# Altium footprint library PowerConnectors.PcbLib: 11 footprints
Each footprint in its own frame and in the unit in brackets; x right, y up, seen from the top. Pads: shape width x height; smd on the part's side, far side on the other; paste and mask are expansions set on the pad; w line width, h text height; cw(c..) or ccw(c..) is an arc to the next point about the centre after c.
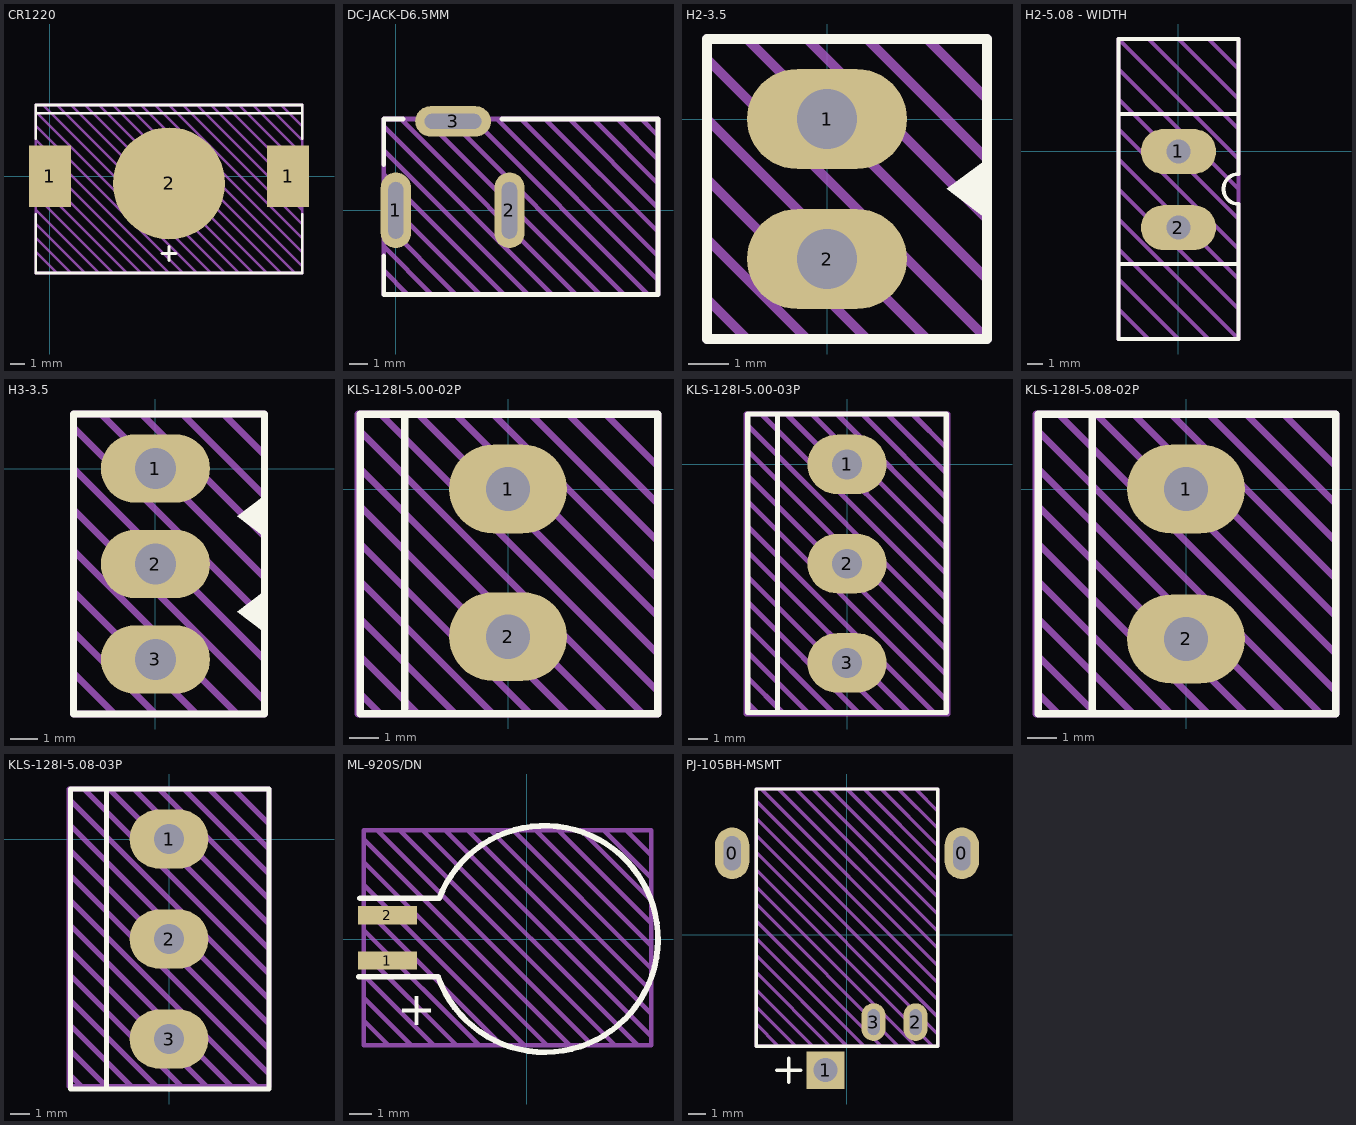
[diagram p0: the footprints below, top view; thin cyan lines are the x and y axes]

## CR1220 [mm] "CR1220, CR1225, CR1216"
pads (3):
  rect 3x4.4 smd: 1(0,0) 1(17,0)
  round 8 smd: 2(8.5,-0.5)
Top Overlay:
  lines w0.2: -1,-2.7 -1,-6.9 18,-6.9 18,-2.7 ; -1,2.7 -1,5.1 18,5.1 18,2.7 ; -1,4.5 18,4.5 ; 8,-5.5 9,-5.5 ; 8.5,-6 8.5,-5
Top Draw:
  lines w0.2: -1,-5.4 0.5,-6.9 ; -1,-4.4 1.5,-6.9 ; -1,-3.4 2.5,-6.9 ; -1,-2.4 3.5,-6.9 ; -1,-1.4 4.5,-6.9 ; -1,-0.4 5.5,-6.9 ; -1,0.6 6.5,-6.9 ; -1,1.6 7.5,-6.9 ; -1,2.6 8.5,-6.9 ; -1,3.6 9.5,-6.9 ; -1,4.6 10.5,-6.9 ; -0.5,5.1 11.5,-6.9 ; 0.5,5.1 12.5,-6.9 ; 1.5,5.1 13.5,-6.9 ; 2.5,5.1 14.5,-6.9 ; 3.5,5.1 15.5,-6.9 ; 4.5,5.1 16.5,-6.9 ; 5.5,5.1 17.5,-6.9 ; 6.5,5.1 18,-6.4 ; 7.5,5.1 18,-5.4 ; 8.5,5.1 18,-4.4 ; 9.5,5.1 18,-3.4 ; 10.5,5.1 18,-2.4 ; 11.5,5.1 18,-1.4 ; 12.5,5.1 18,-0.4 ; 13.5,5.1 18,0.6 ; 14.5,5.1 18,1.6 ; 15.5,5.1 18,2.6 ; 16.5,5.1 18,3.6 ; -1,-6.9 18,-6.9 18,5.1 -1,5.1 -1,-6.9
Top Info:
  text "'.Comment'" at 2.127,-9.125 h1.5
3D body "CR1220.step": height 3.2, standoff 0, extent -1,-6.9 18,5.097

## DC-JACK-D6.5MM [mm]
pads (3):
  oval 1.6x4 hole 0.8 slot 3 at 90 deg: 1(0,0) 2(6,0)
  oval 4x1.6 hole 0.8 slot 3 at 0 deg: 3(3.023,4.699)
Top Overlay:
  lines w0.25: -0.635,-2.413 -0.635,-4.445 13.843,-4.445 13.843,4.826 5.588,4.826 ; -0.635,2.413 -0.635,4.826 0.381,4.826
Top Draw:
  lines w0.25: -0.635,-3.175 0.635,-4.445 ; -0.635,-1.905 1.905,-4.445 ; -0.635,-0.635 3.175,-4.445 ; -0.635,0.635 4.445,-4.445 ; -0.635,1.905 5.715,-4.445 ; -0.635,3.175 6.985,-4.445 ; -0.635,4.445 8.255,-4.445 ; 0.254,4.826 9.525,-4.445 ; 1.524,4.826 10.795,-4.445 ; 2.794,4.826 12.065,-4.445 ; 4.064,4.826 13.335,-4.445 ; 5.334,4.826 13.843,-3.683 ; 6.604,4.826 13.843,-2.413 ; 7.874,4.826 13.843,-1.143 ; 9.144,4.826 13.779,0.191 ; 10.414,4.826 13.843,1.397 ; 11.684,4.826 13.843,2.667 ; 12.954,4.826 13.843,3.937 ; -0.635,-4.445 13.843,-4.445 13.843,4.826 -0.635,4.826 -0.635,-4.445
Top Info:
  text "'.Comment'" at 1.289,-6.329 h1.25
3D body "User Library-DC_Power.step": height 11.05, standoff -3.45, extent -0.596,-4.474 13.804,4.826

## H2-3.5 [mm]
pads (2):
  oval 4x2.5 hole 1.5: 1(0,0) 2(0,-3.5)
Top Overlay:
  region: 4,-1 3,-1.75 4,-2.5
  lines w0.254: -3,-5.5 4,-5.5 4,2 -3,2 -3,-5.5
Top Draw:
  lines w0.254: -3,-4.5 -2,-5.5 ; -3,-3 -0.5,-5.5 ; -3,-1.5 1,-5.5 1.25,-5.5 ; -3,0 2.5,-5.5 2.75,-5.5 ; -3,1.5 4,-5.5 ; -2,2 4,-4 4,-5 ; -0.5,2 4,-2.5 ; 1,2 4,-1 ; 2.5,2 4,0.5 ; 4,-5.5 -3,-5.5 -3,2 4,2 4,-5.5 ; 4,0.5 4,0.5
3D body: height 9.5, standoff 3, extent -2.5,1.2 -2,1.5
3D body: height 9.5, standoff 3, extent -2,1 -1.75,1.5
3D body: height 9.5, standoff 0, extent -3,-5.5 3.5,-5
3D body: height 9.5, standoff 0, extent -3,-2 3.5,-1.5
3D body: height 9.1, standoff 9, extent -0.153,-3.754 0.152,-3.652
3D body: height 9.1, standoff 8.71, extent -0.257,-3.757 0.197,-3.303
3D body: height 9.1, standoff 8.71, extent -0.197,-3.757 0.257,-3.303
3D body: height 9.1, standoff 9, extent -0.152,-3.652 0.152,-3.348
3D body: height 9.1, standoff 9, extent 0.152,-3.652 0.254,-3.348
3D body: height 9.1, standoff 9, extent -0.254,-3.652 -0.152,-3.348
3D body: height 9.1, standoff 8.71, extent -0.257,-3.697 0.197,-3.243
3D body: height 9.1, standoff 8.71, extent -0.197,-3.697 0.257,-3.243
3D body: height 9.1, standoff 9, extent -0.152,-3.348 0.152,-3.246
3D body: height 9, standoff -1.7, extent -0.254,-3.754 0.254,-3.246
3D body: height 9.1, standoff 9, extent -0.153,-0.254 0.152,-0.152
3D body: height 9.1, standoff 8.71, extent -0.257,-0.257 0.197,0.197
3D body: height 9.1, standoff 8.71, extent -0.197,-0.257 0.257,0.197
3D body: height 9.1, standoff 9, extent -0.152,-0.152 0.152,0.152
3D body: height 9.1, standoff 9, extent 0.152,-0.152 0.254,0.152
3D body: height 9.1, standoff 9, extent -0.254,-0.152 -0.152,0.152
3D body: height 9.1, standoff 8.71, extent -0.257,-0.197 0.197,0.257
3D body: height 9.1, standoff 8.71, extent -0.197,-0.197 0.257,0.257
3D body: height 9.1, standoff 9, extent -0.152,0.152 0.152,0.254
3D body: height 9, standoff -1.7, extent -0.254,-0.254 0.254,0.254
3D body: height 4, standoff 3, extent -0.75,-4.25 0.75,-2.75
3D body: height 4, standoff 3, extent -0.75,-0.75 0.75,0.75
3D body: height 9.5, standoff 0, extent -2.5,1.5 3.5,2
3D body: height 9.5, standoff 2.5, extent -3,-5.5 -2.5,2
3D body: height 9.5, standoff 0, extent 3.5,-5.5 4,2
3D body: height 3, standoff 0, extent -3,1.5 1.5,2
3D body: height 2, standoff 0.15, extent -2.9,0.5 1.6,1.5
3D body: height 2, standoff 0.15, extent -2.9,-1.5 1.6,-0.5
3D body: height 2, standoff 0.15, extent -2.9,-3 1.6,-2
3D body: height 2, standoff 0.15, extent -2.9,-5 1.6,-4
3D body: height 2.6, standoff 1, extent -2.9,-5.5 -0.4,2
3D body: height 3.1, standoff 3, extent -2.5,-5 3.5,1.5
3D body: height 9.5, standoff 3, extent -2,-5 -1.75,-4.5
3D body: height 9.5, standoff 3, extent -2.5,-5 -2,-4.7
3D body: height 9.5, standoff 3, extent -2,-2.5 -1.75,-1
3D body: height 9.5, standoff 3, extent -2.5,-1.5 -2,-1.2
3D body: height 9.5, standoff 3, extent -2.5,-2.3 -2,-2
3D body: height 0.1, standoff 0, extent 1.5,-5.5 4,2

## H2-5.08 - WIDTH [mm]
pads (2):
  oval 5x3 hole 1.6: 1(0,0) 2(0,-5.08)
Top Overlay:
  lines w0.254: -4,-7.5 4,-7.5 ; -4,2.5 4,2.5 ; -4,-12.5 4,-12.5 4,-3.5 cw(c4,-2.5) 4,-1.5 4,7.5 -4,7.5 -4,-12.5
Top Draw:
  lines w0.254: -4,-8.5 0,-12.5 ; -4,-6.5 2,-12.5 ; -4,-0.5 4,-8.5 4,-9 ; -4,1.5 4,-6.5 4,-7 ; -4,3.5 4,-4.5 4,-5.5 ; -4,5.5 4,-2.5 ; -2,7.5 4,1.5 ; 0,7.5 4,3.5 ; 2,7.5 4,5.5 ; 4,-10.5 -4,-2.5 -4,-4.5 4,-12.5 ; 4,-0.5 -4,7.5 ; -4,7.5 -4,-12.5 4,-12.5 ; -4,7.5 4,7.5 4,-12.5 ; -2,-12.5 -4,-10.5 -2,-12.5 ; -2,-12.5 -2,-12.5

## H3-3.5 [mm]
pads (3):
  oval 4x2.5 hole 1.5: 1(0,0) 2(0,-3.5) 3(0,-7)
Top Overlay:
  region: 4,-4.5 3,-5.25 4,-6
  region: 4,-1 3,-1.75 4,-2.5
  lines w0.254: -3,-9 -3,2 4,2 4,-9 -3,-9
Top Draw:
  lines w0.254: -3,-7.5 -1.5,-9 -1,-9 ; -3,-6 0,-9 0.5,-9 ; -3,-4.5 1.5,-9 2,-9 ; -3,-3 3,-9 ; -3,-1.5 4,-8.5 ; -3,0 4,-7 4,-7.5 ; -3,1.5 4,-5.5 4,-6 ; -2,2 4,-4 4,-5 ; -0.5,2 4,-2.5 ; 1,2 4,-1 ; 2.5,2 4,0.5 ; 3,-9 3,-9 ; 4,-8.5 4,-8.5 ; 4,0.5 4,0.5 ; -3,-9 4,-9 4,2 -3,2 -3,-9
3D body: height 9.5, standoff 3, extent -2.5,-2.3 -2,-2
3D body: height 9.5, standoff 3, extent -2.5,-1.5 -2,-1.2
3D body: height 9.5, standoff 3, extent -2,-2.5 -1.75,-1
3D body: height 9.5, standoff 3, extent -2.5,-5.8 -2,-5.5
3D body: height 9.5, standoff 3, extent -2.5,-5 -2,-4.7
3D body: height 9.5, standoff 3, extent -2,-6 -1.75,-4.5
3D body: height 3.1, standoff 3, extent -2.5,-8.5 3.5,1.5
3D body: height 2.6, standoff 1, extent -2.9,-9 -0.4,2
3D body: height 2, standoff 0.15, extent -2.9,-8.5 1.6,-7.5
3D body: height 2, standoff 0.15, extent -2.9,-6.5 1.6,-5.5
3D body: height 2, standoff 0.15, extent -2.9,-5 1.6,-4
3D body: height 2, standoff 0.15, extent -2.9,-3 1.6,-2
3D body: height 2, standoff 0.15, extent -2.9,-1.5 1.6,-0.5
3D body: height 2, standoff 0.15, extent -2.9,0.5 1.6,1.5
3D body: height 3, standoff 0, extent -3,-9 1.5,-8.5
3D body: height 3, standoff 0, extent -3,1.5 1.5,2
3D body: height 0.1, standoff 0, extent 1.5,-9 4,2
3D body: height 9.5, standoff 0, extent 3.5,-9 4,2
3D body: height 9.5, standoff 2.5, extent -3,-9 -2.5,2
3D body: height 9.5, standoff 0, extent -2.5,-9 3.5,-8.5
3D body: height 9.5, standoff 0, extent -2.5,1.5 3.5,2
3D body: height 4, standoff 3, extent -0.75,-0.75 0.75,0.75
3D body: height 4, standoff 3, extent -0.75,-4.25 0.75,-2.75
3D body: height 4, standoff 3, extent -0.75,-7.75 0.75,-6.25
3D body: height 9, standoff -1.7, extent -0.254,-0.254 0.254,0.254
3D body: height 9.1, standoff 9, extent -0.152,0.152 0.152,0.254
3D body: height 9.1, standoff 8.71, extent -0.197,-0.197 0.257,0.257
3D body: height 9.1, standoff 8.71, extent -0.257,-0.197 0.197,0.257
3D body: height 9.1, standoff 9, extent -0.254,-0.152 -0.152,0.152
3D body: height 9.1, standoff 9, extent 0.152,-0.152 0.254,0.152
3D body: height 9.1, standoff 9, extent -0.152,-0.152 0.152,0.152
3D body: height 9.1, standoff 8.71, extent -0.197,-0.257 0.257,0.197
3D body: height 9.1, standoff 8.71, extent -0.257,-0.257 0.197,0.197
3D body: height 9.1, standoff 9, extent -0.153,-0.254 0.152,-0.152
3D body: height 9, standoff -1.7, extent -0.254,-3.754 0.254,-3.246
3D body: height 9.1, standoff 9, extent -0.152,-3.348 0.152,-3.246
3D body: height 9.1, standoff 8.71, extent -0.197,-3.697 0.257,-3.243
3D body: height 9.1, standoff 8.71, extent -0.257,-3.697 0.197,-3.243
3D body: height 9.1, standoff 9, extent -0.254,-3.652 -0.152,-3.348
3D body: height 9.1, standoff 9, extent 0.152,-3.652 0.254,-3.348
3D body: height 9.1, standoff 9, extent -0.152,-3.652 0.152,-3.348
3D body: height 9.1, standoff 8.71, extent -0.197,-3.757 0.257,-3.303
3D body: height 9.1, standoff 8.71, extent -0.257,-3.757 0.197,-3.303
3D body: height 9.1, standoff 9, extent -0.153,-3.754 0.152,-3.652
3D body: height 9, standoff -1.7, extent -0.254,-7.254 0.254,-6.746
3D body: height 9.1, standoff 9, extent -0.152,-6.848 0.152,-6.746
3D body: height 9.1, standoff 8.71, extent -0.197,-7.197 0.257,-6.743
3D body: height 9.1, standoff 8.71, extent -0.257,-7.197 0.197,-6.743
3D body: height 9.1, standoff 9, extent -0.254,-7.152 -0.152,-6.848
3D body: height 9.1, standoff 9, extent 0.152,-7.152 0.254,-6.848
3D body: height 9.1, standoff 9, extent -0.152,-7.152 0.152,-6.848
3D body: height 9.1, standoff 8.71, extent -0.197,-7.257 0.257,-6.803
3D body: height 9.1, standoff 8.71, extent -0.257,-7.257 0.197,-6.803
3D body: height 9.1, standoff 9, extent -0.153,-7.254 0.152,-7.152
3D body: height 9.5, standoff 0, extent -3,-2 3.5,-1.5
3D body: height 9.5, standoff 0, extent -3,-5.5 3.5,-5
3D body: height 9.5, standoff 3, extent -2,1 -1.75,1.5
3D body: height 9.5, standoff 3, extent -2.5,1.2 -2,1.5
3D body: height 9.5, standoff 3, extent -2,-8.5 -1.75,-8
3D body: height 9.5, standoff 3, extent -2.5,-8.5 -2,-8.2

## KLS-128I-5.00-02P [mm]
pads (2):
  oval 4x3 hole 1.5: 1(0,0) 2(0,-5)
Top Overlay:
  lines w0.254: -3.5,-7.5 -3.5,2.5 ; -5,-7.62 -5,2.54 5.08,2.54 5.08,-7.62 -5,-7.62
Top Draw:
  lines w0.254: -5.08,-6.858 -4.318,-7.62 -4.191,-7.62 ; -5.08,-5.588 -3.048,-7.62 -2.921,-7.62 ; -5.08,-4.318 -1.778,-7.62 ; -5.08,-3.048 -0.508,-7.62 ; -5.08,-1.778 0.762,-7.62 ; -5.08,-0.508 2.032,-7.62 ; -5.08,0.762 3.302,-7.62 ; -5.08,2.032 4.572,-7.62 ; -4.318,2.54 5.08,-6.858 ; -3.048,2.54 5.08,-5.588 ; -2.794,-7.62 -1.778,-7.62 ; -1.778,2.54 5.08,-4.318 ; -0.889,-7.62 -1.016,-7.62 -1.778,-7.62 ; -0.508,2.54 5.08,-3.048 ; 0.762,2.54 5.08,-1.778 ; 2.032,2.54 5.08,-0.508 ; 3.302,2.54 5.08,0.762 ; -5.08,-7.62 -5.08,2.54 5.08,2.54 5.08,-7.62 -5.08,-7.62
3D body: height 13.8, standoff 13.2, extent -1.6,-6.6 1.6,-3.4
3D body: height 13.8, standoff 13.2, extent -1.6,-1.6 1.6,1.6
3D body: height 6, standoff 5.6, extent -3.825,-6.853 1.001,-3.297
3D body: height 6, standoff 0.49, extent -3.825,-6.877 0.747,-6.623
3D body: height 6, standoff 0.49, extent 0.748,-6.853 1.002,-3.297
3D body: height 6, standoff 0.49, extent -3.825,-3.552 0.772,-3.298
3D body: height 1.6, standoff 1.5, extent -3.75,-6.65 0.822,-3.526
3D body: height 1.6, standoff 1.5, extent -3.75,-1.55 0.822,1.55
3D body: height 6, standoff 0.49, extent -3.825,1.523 0.747,1.777
3D body: height 6, standoff 0.49, extent 0.723,-1.778 0.977,1.778
3D body: height 6, standoff 0.49, extent -3.825,-1.777 0.747,-1.523
3D body: height 6, standoff 5.6, extent -3.825,-1.778 1.001,1.778
3D body: height 1.5, standoff -3, extent -0.381,-0.508 0.381,0.508
3D body: height 1.5, standoff -3, extent -0.381,-5.508 0.381,-4.492
3D body: height 13.3, standoff 13, extent -1.5,-1.499 1.5,1.5
3D body: height 13.3, standoff 13, extent -1.5,-6.5 1.5,-3.5
3D body: height 14, standoff 13, extent -3.4,-2.501 2.6,2.451
3D body: height 14, standoff 13, extent -3.4,-7.525 2.6,-2.375
3D body: height 1.5, standoff 0, extent 2.032,-1.778 5.1,1.778
3D body: height 6, standoff 0, extent 2.699,-7.773 3.2,-7.65
3D body: height 6, standoff 0, extent -2.708,-7.777 -2.2,-7.65
3D body: height 6, standoff 0, extent -5.1,-3.302 5.1,-1.778
3D body: height 6, standoff 0, extent -5.1,-7.65 5.1,-6.9
3D body: height 6, standoff 0, extent -5.1,1.778 5.1,2.337
3D body: height 6, standoff 0, extent -5.099,2.323 -2.573,2.45
3D body: height 8, standoff 0, extent -2.323,2.327 2.823,2.45
3D body: height 6, standoff 0, extent 3.079,2.329 5.1,2.45
3D body: height 1.5, standoff 0, extent -5.1,-1.825 -3.75,1.878
3D body: height 1.5, standoff 0, extent -5.1,-7.65 -3.75,-3.202
3D body: height 1.5, standoff 0, extent 2.032,-6.9 5.1,-3.302
3D body: height 6, standoff 1.49, extent 2.032,0.508 5.1,1.778
3D body: height 6, standoff 1.49, extent 2.032,-1.778 5.1,-0.508
3D body: height 6, standoff 1.49, extent 2.032,-4.572 5.1,-3.302
3D body: height 6, standoff 1.49, extent 2.032,-6.9 5.1,-5.588
3D body: height 6, standoff 5.9, extent 4.064,-0.635 5.1,0.635
3D body: height 6, standoff 5.9, extent 4.064,-5.715 5.1,-4.445
3D body: height 14, standoff 6, extent 2.6,-7.65 5.1,2.45
3D body: height 14, standoff 7, extent -5.1,-7.65 -3.4,2.45
3D body: height 7, standoff 6, extent -5.1,-7.65 -3.35,2.45
3D body: height 14, standoff 6, extent -3.4,2.05 2.6,2.45
3D body: height 14, standoff 6, extent -3.4,-7.65 2.6,-7.25

## KLS-128I-5.00-03P [mm]
pads (3):
  oval 4x3 hole 1.5: 1(0,0) 2(0,-5) 3(0,-10)
Top Overlay:
  lines w0.254: -3.5,-12.5 -3.5,2.54 ; -3.5,2.54 5,2.54 5,-12.5 -5,-12.5 -5,2.54 -3.5,2.54
Top Draw:
  lines w0.254: -5.08,-11.938 -4.445,-12.573 ; -5.08,-10.668 -3.175,-12.573 ; -5.08,-9.398 -1.905,-12.573 ; -5.08,-8.128 -0.635,-12.573 ; -5.08,-6.858 0.635,-12.573 ; -5.08,-5.588 1.905,-12.573 ; -5.08,-4.318 3.175,-12.573 ; -5.08,-3.048 4.445,-12.573 ; -5.08,-1.778 5.08,-11.938 ; -5.08,-0.508 5.08,-10.668 ; -5.08,0.762 5.08,-9.398 ; -5.08,2.032 5.08,-8.128 ; -4.318,2.54 5.08,-6.858 ; -3.048,2.54 5.08,-5.588 ; -1.778,2.54 5.08,-4.318 ; -0.508,2.54 5.08,-3.048 ; 0.762,2.54 5.08,-1.778 ; 2.032,2.54 5.08,-0.508 ; 3.302,2.54 5.08,0.762 ; -5.08,-12.573 5.08,-12.573 5.08,2.54 -5.08,2.54 -5.08,-12.573
3D body: height 6, standoff 0, extent 2.699,-12.773 3.2,-12.65
3D body: height 6, standoff 0, extent -2.708,-12.777 -2.2,-12.65
3D body: height 6, standoff 0.49, extent -3.825,-6.877 0.747,-6.623
3D body: height 6, standoff 0.49, extent -3.825,-11.877 0.747,-11.623
3D body: height 6, standoff 0.49, extent -3.825,-8.552 0.772,-8.298
3D body: height 1.6, standoff 1.5, extent -3.75,-6.65 0.822,-3.526
3D body: height 1.6, standoff 1.5, extent -3.75,-11.65 0.822,-8.526
3D body: height 6, standoff 5.6, extent -3.825,-6.853 1.001,-3.297
3D body: height 6, standoff 5.6, extent -3.825,-11.853 1.001,-8.297
3D body: height 14, standoff 6, extent -3.4,-7.65 2.6,-7.25
3D body: height 14, standoff 13, extent -3.4,-12.525 2.6,-7.375
3D body: height 14, standoff 6, extent -3.4,-12.65 2.6,-12.25
3D body: height 6, standoff 0, extent -5.1,-7.65 5.1,-6.9
3D body: height 1.5, standoff -3, extent -0.381,-10.508 0.381,-9.492
3D body: height 13.8, standoff 13.2, extent -1.6,-11.6 1.6,-8.4
3D body: height 6, standoff 0, extent -5.1,-8.302 5.1,-6.778
3D body: height 13.3, standoff 13, extent -1.5,-11.499 1.5,-8.5
3D body: height 6, standoff 0.49, extent 0.748,-6.853 1.002,-3.297
3D body: height 6, standoff 0.49, extent 0.748,-11.853 1.002,-8.297
3D body: height 6, standoff 1.49, extent 2.032,-6.9 5.1,-5.588
3D body: height 1.5, standoff 0, extent 2.032,-6.9 5.1,-3.302
3D body: height 6, standoff 1.49, extent 2.032,-9.572 5.1,-8.302
3D body: height 1.5, standoff 0, extent 2.032,-11.9 5.1,-8.302
3D body: height 6, standoff 1.49, extent 2.032,-11.9 5.1,-10.588
3D body: height 14, standoff 6, extent 2.6,-12.65 5.1,-2.55
3D body: height 6, standoff 5.9, extent 4.064,-5.715 5.1,-4.445
3D body: height 6, standoff 5.9, extent 4.064,-10.715 5.1,-9.445
3D body: height 6, standoff 0, extent -5.1,-12.65 5.1,-11.9
3D body: height 1.5, standoff 0, extent -5.1,-1.825 -3.75,1.878
3D body: height 14, standoff 7, extent -5.1,-7.65 -3.4,2.45
3D body: height 6, standoff 0, extent -5.099,2.323 -2.573,2.45
3D body: height 6, standoff 0.49, extent -3.825,-1.777 0.747,-1.523
3D body: height 6, standoff 0.49, extent -3.825,1.523 0.747,1.777
3D body: height 6, standoff 0.49, extent -3.825,-3.552 0.772,-3.298
3D body: height 1.6, standoff 1.5, extent -3.75,-1.55 0.822,1.55
3D body: height 6, standoff 5.6, extent -3.825,-1.778 1.001,1.778
3D body: height 14, standoff 13, extent -3.4,-7.525 2.6,-2.375
3D body: height 14, standoff 6, extent -3.4,2.05 2.6,2.45
3D body: height 14, standoff 13, extent -3.4,-2.501 2.6,2.451
3D body: height 6, standoff 0, extent -5.1,1.778 5.1,2.337
3D body: height 13.8, standoff 13.2, extent -1.6,-6.6 1.6,-3.4
3D body: height 13.8, standoff 13.2, extent -1.6,-1.6 1.6,1.6
3D body: height 6, standoff 0, extent -5.1,-3.302 5.1,-1.778
3D body: height 13.3, standoff 13, extent -1.5,-1.499 1.5,1.5
3D body: height 1.5, standoff -3, extent -0.381,-0.508 0.381,0.508
3D body: height 13.3, standoff 13, extent -1.5,-6.5 1.5,-3.5
3D body: height 1.5, standoff -3, extent -0.381,-5.508 0.381,-4.492
3D body: height 8, standoff 0, extent -2.323,2.327 2.823,2.45
3D body: height 6, standoff 0.49, extent 0.723,-1.778 0.977,1.778
3D body: height 6, standoff 1.49, extent 2.032,-4.572 5.1,-3.302
3D body: height 6, standoff 1.49, extent 2.032,-1.778 5.1,-0.508
3D body: height 6, standoff 1.49, extent 2.032,0.508 5.1,1.778
3D body: height 1.5, standoff 0, extent 2.032,-1.778 5.1,1.778
3D body: height 14, standoff 6, extent 2.6,-7.65 5.1,2.45
3D body: height 6, standoff 0, extent 3.079,2.329 5.1,2.45
3D body: height 6, standoff 5.9, extent 4.064,-0.635 5.1,0.635
3D body: height 1.5, standoff 0, extent -5.1,-7.65 -3.75,-3.202
3D body: height 1.5, standoff 0, extent -5.1,-12.65 -3.75,-8.202
3D body: height 14, standoff 7, extent -5.1,-12.65 -3.4,-2.55
3D body: height 7, standoff 6, extent -5.1,-12.65 -3.35,2.45

## KLS-128I-5.08-02P [mm]
pads (2):
  oval 4x3 hole 1.5: 1(0,0) 2(0,-5.08)
Top Overlay:
  lines w0.254: -3.81,2.54 5.08,2.54 5.08,-7.62 -5,-7.62 -5,2.54 -3.175,2.54 -3.175,-7.62
Top Draw:
  lines w0.254: -5.08,-6.858 -4.318,-7.62 -4.191,-7.62 ; -5.08,-5.588 -3.048,-7.62 -2.921,-7.62 ; -5.08,-4.318 -1.778,-7.62 ; -5.08,-3.048 -0.508,-7.62 ; -5.08,-1.778 0.762,-7.62 ; -5.08,-0.508 2.032,-7.62 ; -5.08,0.762 3.302,-7.62 ; -5.08,2.032 4.572,-7.62 ; -4.318,2.54 5.08,-6.858 ; -3.048,2.54 5.08,-5.588 ; -2.794,-7.62 -1.778,-7.62 ; -1.778,2.54 5.08,-4.318 ; -0.889,-7.62 -1.016,-7.62 -1.778,-7.62 ; -0.508,2.54 5.08,-3.048 ; 0.762,2.54 5.08,-1.778 ; 2.032,2.54 5.08,-0.508 ; 3.302,2.54 5.08,0.762 ; -5.08,-7.62 5.08,-7.62 5.08,2.54 -5.08,2.54 -5.08,-7.62
3D body: height 13.8, standoff 13.2, extent -1.6,-1.6 1.6,1.6
3D body: height 13.8, standoff 13.2, extent -1.6,-6.68 1.6,-3.48
3D body: height 6, standoff 5.6, extent -3.825,-6.853 1.001,-3.297
3D body: height 6, standoff 0.49, extent -3.825,-6.877 0.747,-6.623
3D body: height 6, standoff 0.49, extent 0.748,-6.853 1.002,-3.297
3D body: height 6, standoff 0.49, extent -3.825,-3.552 0.772,-3.298
3D body: height 1.6, standoff 1.5, extent -3.75,-6.65 0.822,-3.526
3D body: height 1.6, standoff 1.5, extent -3.75,-1.55 0.822,1.55
3D body: height 6, standoff 0.49, extent -3.825,1.523 0.747,1.777
3D body: height 6, standoff 0.49, extent 0.723,-1.778 0.977,1.778
3D body: height 6, standoff 0.49, extent -3.825,-1.777 0.747,-1.523
3D body: height 6, standoff 5.6, extent -3.825,-1.778 1.001,1.778
3D body: height 1.5, standoff -3, extent -0.381,-0.508 0.381,0.508
3D body: height 1.5, standoff -3, extent -0.381,-5.588 0.381,-4.572
3D body: height 13.3, standoff 13, extent -1.5,-1.5 1.5,1.5
3D body: height 13.3, standoff 13, extent -1.5,-6.58 1.5,-3.581
3D body: height 14, standoff 13, extent -3.4,-2.54 2.6,2.45
3D body: height 1.5, standoff 0, extent 2.032,-1.778 5.1,1.778
3D body: height 6, standoff 0, extent -5.1,-3.302 5.1,-1.778
3D body: height 6, standoff 0, extent -5.1,1.778 5.1,2.337
3D body: height 6, standoff 0, extent -5.099,2.323 -2.573,2.45
3D body: height 8, standoff 0, extent -2.323,2.326 2.824,2.45
3D body: height 6, standoff 0, extent 3.079,2.328 5.1,2.45
3D body: height 1.5, standoff 0, extent -5.1,-1.825 -3.75,1.878
3D body: height 1.5, standoff 0, extent -5.1,-7.65 -3.75,-3.202
3D body: height 1.5, standoff 0, extent 2.032,-6.9 5.1,-3.302
3D body: height 6, standoff 1.49, extent 2.032,0.508 5.1,1.778
3D body: height 6, standoff 1.49, extent 2.032,-1.778 5.1,-0.508
3D body: height 6, standoff 1.49, extent 2.032,-4.572 5.1,-3.302
3D body: height 6, standoff 1.49, extent 2.032,-6.9 5.1,-5.588
3D body: height 6, standoff 5.9, extent 4.064,-0.635 5.1,0.635
3D body: height 6, standoff 5.9, extent 4.064,-5.715 5.1,-4.445
3D body: height 14, standoff 6, extent 2.6,-7.65 5.1,2.45
3D body: height 14, standoff 7, extent -5.1,-7.65 -3.4,2.45
3D body: height 7, standoff 6, extent -5.1,-7.65 -3.35,2.45
3D body: height 14, standoff 6, extent -3.4,2.05 2.6,2.45
3D body: height 6, standoff 0, extent 2.699,-7.768 3.2,-7.645
3D body: height 6, standoff 0, extent -2.708,-7.772 -2.2,-7.645
3D body: height 6, standoff 0, extent -5.1,-7.65 5.1,-6.9
3D body: height 14, standoff 6, extent -3.4,-7.65 2.6,-7.25
3D body: height 14, standoff 13, extent -3.4,-7.581 2.6,-2.54

## KLS-128I-5.08-03P [mm]
pads (3):
  oval 4x3 hole 1.5: 1(0,0) 2(0,-5.08) 3(0,-10.16)
Top Overlay:
  lines w0.254: -3.81,2.54 5.08,2.54 5.08,-12.7 -5,-12.7 -5,2.54 -3.175,2.54 -3.175,-12.7
Top Draw:
  lines w0.254: -5.08,-11.938 -4.445,-12.573 ; -5.08,-10.668 -3.175,-12.573 ; -5.08,-9.398 -1.905,-12.573 ; -5.08,-8.128 -0.635,-12.573 ; -5.08,-6.858 0.635,-12.573 ; -5.08,-5.588 1.905,-12.573 ; -5.08,-4.318 3.175,-12.573 ; -5.08,-3.048 4.445,-12.573 ; -5.08,-1.778 5.08,-11.938 ; -5.08,-0.508 5.08,-10.668 ; -5.08,0.762 5.08,-9.398 ; -5.08,2.032 5.08,-8.128 ; -4.318,2.54 5.08,-6.858 ; -3.048,2.54 5.08,-5.588 ; -1.778,2.54 5.08,-4.318 ; -0.508,2.54 5.08,-3.048 ; 0.762,2.54 5.08,-1.778 ; 2.032,2.54 5.08,-0.508 ; 3.302,2.54 5.08,0.762 ; -5.08,-12.573 5.08,-12.573 5.08,2.54 -5.08,2.54 -5.08,-12.573
3D body: height 14, standoff 13, extent -3.4,-12.661 2.6,-7.62
3D body: height 14, standoff 13, extent -3.4,-7.62 2.6,-2.54
3D body: height 6, standoff 0, extent -5.1,-8.382 5.1,-6.858
3D body: height 14, standoff 7, extent -5.1,-12.73 -3.4,-2.63
3D body: height 14, standoff 6, extent 2.6,-12.73 5.1,-2.63
3D body: height 14, standoff 6, extent -3.4,-12.73 2.6,-12.33
3D body: height 6, standoff 5.9, extent 4.064,-10.795 5.1,-9.525
3D body: height 6, standoff 1.49, extent 2.032,-11.98 5.1,-10.668
3D body: height 6, standoff 1.49, extent 2.032,-9.652 5.1,-8.382
3D body: height 1.5, standoff 0, extent 2.032,-11.98 5.1,-8.382
3D body: height 1.5, standoff 0, extent -5.1,-12.73 -3.75,-8.282
3D body: height 6, standoff 0, extent -5.1,-12.73 5.1,-11.98
3D body: height 6, standoff 0, extent -2.708,-12.852 -2.2,-12.725
3D body: height 13.3, standoff 13, extent -1.5,-11.66 1.5,-8.661
3D body: height 1.5, standoff -3, extent -0.381,-10.668 0.381,-9.652
3D body: height 1.6, standoff 1.5, extent -3.75,-11.73 0.822,-8.606
3D body: height 6, standoff 0.49, extent -3.825,-8.632 0.772,-8.378
3D body: height 6, standoff 0.49, extent 0.748,-11.933 1.002,-8.377
3D body: height 6, standoff 0.49, extent -3.825,-11.957 0.747,-11.703
3D body: height 6, standoff 5.6, extent -3.825,-11.933 1.001,-8.377
3D body: height 13.8, standoff 13.2, extent -1.6,-11.76 1.6,-8.56
3D body: height 14, standoff 6, extent -3.4,-7.65 2.6,-7.25
3D body: height 14, standoff 6, extent -3.4,2.05 2.6,2.45
3D body: height 7, standoff 6, extent -5.1,-12.73 -3.35,2.45
3D body: height 14, standoff 7, extent -5.1,-7.65 -3.4,2.45
3D body: height 14, standoff 6, extent 2.6,-7.65 5.1,2.45
3D body: height 6, standoff 5.9, extent 4.064,-5.715 5.1,-4.445
3D body: height 6, standoff 5.9, extent 4.064,-0.635 5.1,0.635
3D body: height 6, standoff 1.49, extent 2.032,-6.9 5.1,-5.588
3D body: height 6, standoff 1.49, extent 2.032,-4.572 5.1,-3.302
3D body: height 6, standoff 1.49, extent 2.032,-1.778 5.1,-0.508
3D body: height 6, standoff 1.49, extent 2.032,0.508 5.1,1.778
3D body: height 1.5, standoff 0, extent 2.032,-6.9 5.1,-3.302
3D body: height 1.5, standoff 0, extent -5.1,-7.65 -3.75,-3.202
3D body: height 1.5, standoff 0, extent -5.1,-1.825 -3.75,1.878
3D body: height 6, standoff 0, extent 3.079,2.329 5.1,2.45
3D body: height 8, standoff 0, extent -2.323,2.327 2.823,2.45
3D body: height 6, standoff 0, extent -5.099,2.323 -2.573,2.45
3D body: height 6, standoff 0, extent -5.1,1.778 5.1,2.337
3D body: height 6, standoff 0, extent -5.1,-7.65 5.1,-6.9
3D body: height 6, standoff 0, extent -5.1,-3.302 5.1,-1.778
3D body: height 1.5, standoff 0, extent 2.032,-1.778 5.1,1.778
3D body: height 14, standoff 13, extent -3.4,-2.54 2.6,2.451
3D body: height 13.3, standoff 13, extent -1.5,-6.58 1.5,-3.58
3D body: height 13.3, standoff 13, extent -1.5,-1.499 1.5,1.5
3D body: height 1.5, standoff -3, extent -0.381,-5.588 0.381,-4.572
3D body: height 1.5, standoff -3, extent -0.381,-0.508 0.381,0.508
3D body: height 6, standoff 5.6, extent -3.825,-1.778 1.001,1.778
3D body: height 6, standoff 0.49, extent -3.825,-1.777 0.747,-1.523
3D body: height 6, standoff 0.49, extent 0.723,-1.778 0.977,1.778
3D body: height 6, standoff 0.49, extent -3.825,1.523 0.747,1.777
3D body: height 1.6, standoff 1.5, extent -3.75,-1.55 0.822,1.55
3D body: height 1.6, standoff 1.5, extent -3.75,-6.65 0.822,-3.526
3D body: height 6, standoff 0.49, extent -3.825,-3.552 0.772,-3.298
3D body: height 6, standoff 0.49, extent 0.748,-6.853 1.002,-3.297
3D body: height 6, standoff 0.49, extent -3.825,-6.877 0.747,-6.623
3D body: height 6, standoff 5.6, extent -3.825,-6.853 1.001,-3.297
3D body: height 13.8, standoff 13.2, extent -1.6,-6.68 1.6,-3.48
3D body: height 13.8, standoff 13.2, extent -1.6,-1.6 1.6,1.6
3D body: height 6, standoff 0, extent 2.7,-12.848 3.2,-12.725

## ML-920S/DN [mm]
pads (2):
  rect 2.6x0.8 smd: 1(-6.15,-0.95) 2(-6.15,1.05)
Top Overlay:
  lines w0.254: -7.414,-1.664 -3.915,-1.664 ccw(c0.8,0) -3.867,1.795 -7.366,1.795
  text "+" at -5.715,-3.81 h1.5
Top Draw:
  lines w0.2: -7.2,-3.6 -6.1,-4.7 ; -7.2,-2.6 -5.1,-4.7 ; -7.2,-1.6 -4.1,-4.7 ; -7.2,-0.6 -3.1,-4.7 ; -7.2,0.4 -2.1,-4.7 ; -7.2,1.4 -1.1,-4.7 ; -7.2,2.4 -0.1,-4.7 ; -7.2,3.4 0.9,-4.7 ; -7.2,4.4 1.9,-4.7 ; -6.6,4.8 2.9,-4.7 ; -5.6,4.8 3.9,-4.7 ; -4.6,4.8 4.9,-4.7 ; -3.6,4.8 5.5,-4.3 ; -2.6,4.8 5.5,-3.3 ; -1.6,4.8 5.5,-2.3 ; -0.6,4.8 5.5,-1.3 ; 0.4,4.8 5.5,-0.3 ; 1.4,4.8 5.5,0.7 ; 2.4,4.8 5.5,1.7 ; 3.4,4.8 5.5,2.7 ; 4.4,4.8 5.5,3.7 ; -7.2,-4.7 5.5,-4.7 5.5,4.8 -7.2,4.8 -7.2,-4.7
3D body "ML-920SDN.STEP": height 2.8, standoff 0, extent -7.22,-4.719 5.53,4.781

## PJ-105BH-MSMT [mm]
pads (5):
  oval 2x3 hole 1 slot 2 at 90 deg: 0(-6.699,4.749) 0(6.701,4.749)
  rect 2.2x2.2 hole 1.4: 1(-1.249,-7.901)
  oval 1.4x2.2 hole 0.7 slot 1.5 at 90 deg: 2(4.001,-5.101) 3(1.551,-5.101)
Top Overlay:
  lines w0.2: -5.3,-6.5 -4.6,-6.5 5.3,-6.5 5.3,8.5 -5.3,8.5 ; -5.297,-6.5 -5.297,8.5 ; -4.1,-7.9 -2.7,-7.9 ; -3.4,-8.6 -3.4,-7.2
Top Draw:
  lines w0.2: -5.3,-5.2 -4,-6.5 ; -5.3,-4.2 -3,-6.5 ; -5.3,-3.2 -2,-6.5 ; -5.3,-2.2 -1,-6.5 ; -5.3,-1.2 0,-6.5 ; -5.3,-0.2 1,-6.5 ; -5.3,0.8 2,-6.5 ; -5.3,1.8 3,-6.5 ; -5.3,2.8 4,-6.5 ; -5.3,3.8 5,-6.5 ; -5.3,4.8 5.3,-5.8 ; -5.3,5.8 5.3,-4.8 ; -5.3,6.8 5.3,-3.8 ; -5.3,7.8 5.3,-2.8 ; -5,8.5 5.3,-1.8 ; -4,8.5 5.3,-0.8 ; -3,8.5 5.3,0.2 ; -2,8.5 5.3,1.2 ; -1,8.5 5.3,2.2 ; 0,8.5 5.3,3.2 ; 1,8.5 5.3,4.2 ; 2,8.5 5.3,5.2 ; 3,8.5 5.3,6.2 ; 4,8.5 5.3,7.2 ; -5.3,-6.5 5.3,-6.5 5.3,8.5 -5.3,8.5 -5.3,-6.5
3D body "PJ-105BH-MSMT.STEP": height 3.8, standoff -3.8, extent -6.875,-8.4 6.875,8.5